# Altium schematic symbol library Regulator_Switching.SchLib: 1279 symbols (part 11 of 14)
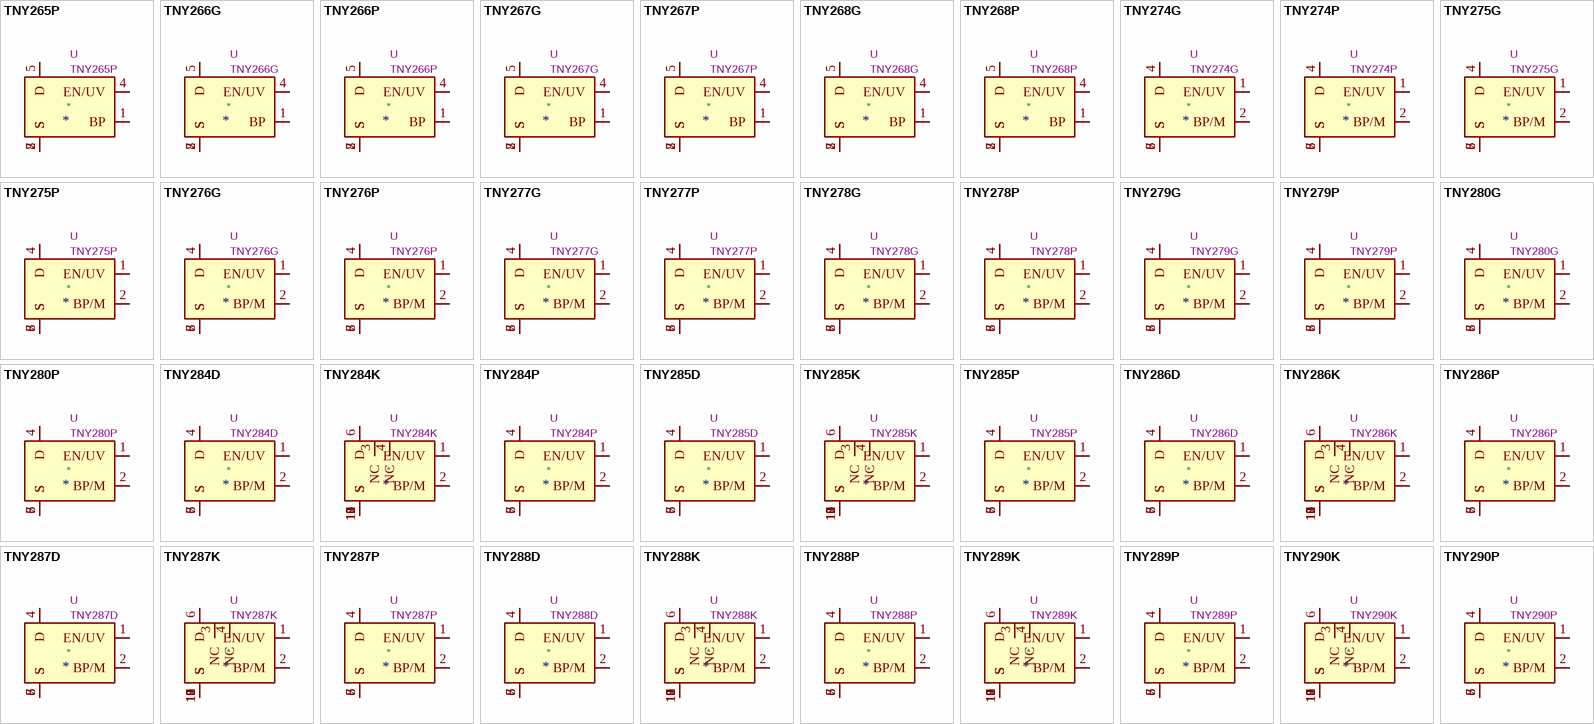
[diagram p42: symbols TNY265P to TNY290P]

## TNY287P
designator *  value TNY287P  Reference: U
TinySwitch-4 Family, 18W Output Power, PDIP-8C; ki_keywords: Energy-Efficient, Off-Line Switcher With Line Compensated Overload Power; ki_fp_filters: PowerIntegrations?PDIP?8C*; Footprint: Package_DIP:PowerIntegrations_PDIP-8C; Datasheet: https://ac-dc.power.com/sites/default/files/product-docs/tinyswitch-4_family_datasheet.pdf; Description_: TinySwitch-4 Family, 18W Output Power, PDIP-8C
pins: 1 EN/UV, 2 BP/M, 4 D, 5 S, 6 S, 7 S, 8 S

## TNY288D
designator *  value TNY288D  Reference: U
TinySwitch-4 Family, 19.5W Output Power, SO-8C; ki_keywords: Energy-Efficient, Off-Line Switcher With Line Compensated Overload Power; ki_fp_filters: PowerIntegrations?SO?8C*; Footprint: Package_SO:PowerIntegrations_SO-8C; Datasheet: https://ac-dc.power.com/sites/default/files/product-docs/tinyswitch-4_family_datasheet.pdf; Description_: TinySwitch-4 Family, 19.5W Output Power, SO-8C
pins: 1 EN/UV, 2 BP/M, 4 D, 5 S, 6 S, 7 S, 8 S

## TNY288K
designator *  value TNY288K  Reference: U
TinySwitch-4 Family, 21.5W Output Power, eSOP-12B; ki_keywords: Energy-Efficient, Off-Line Switcher With Line Compensated Overload Power; ki_fp_filters: PowerIntegrations?eSOP?12B*; Footprint: Package_SO:PowerIntegrations_eSOP-12B; Datasheet: https://ac-dc.power.com/sites/default/files/product-docs/tinyswitch-4_family_datasheet.pdf; Description_: TinySwitch-4 Family, 21.5W Output Power, eSOP-12B
pins: 1 EN/UV, 2 BP/M, 3 NC, 4 NC, 6 D, 7 S, 8 S, 9 S, 10 S, 11 S, 12 S, 13 S

## TNY288P
designator *  value TNY288P  Reference: U
TinySwitch-4 Family, 21.5W Output Power, PDIP-8C; ki_keywords: Energy-Efficient, Off-Line Switcher With Line Compensated Overload Power; ki_fp_filters: PowerIntegrations?PDIP?8C*; Footprint: Package_DIP:PowerIntegrations_PDIP-8C; Datasheet: https://ac-dc.power.com/sites/default/files/product-docs/tinyswitch-4_family_datasheet.pdf; Description_: TinySwitch-4 Family, 21.5W Output Power, PDIP-8C
pins: 1 EN/UV, 2 BP/M, 4 D, 5 S, 6 S, 7 S, 8 S

## TNY289K
designator *  value TNY289K  Reference: U
TinySwitch-4 Family, 25W Output Power, eSOP-12B; ki_keywords: Energy-Efficient, Off-Line Switcher With Line Compensated Overload Power; ki_fp_filters: PowerIntegrations?eSOP?12B*; Footprint: Package_SO:PowerIntegrations_eSOP-12B; Datasheet: https://ac-dc.power.com/sites/default/files/product-docs/tinyswitch-4_family_datasheet.pdf; Description_: TinySwitch-4 Family, 25W Output Power, eSOP-12B
pins: 1 EN/UV, 2 BP/M, 3 NC, 4 NC, 6 D, 7 S, 8 S, 9 S, 10 S, 11 S, 12 S, 13 S

## TNY289P
designator *  value TNY289P  Reference: U
TinySwitch-4 Family, 25W Output Power, PDIP-8C; ki_keywords: Energy-Efficient, Off-Line Switcher With Line Compensated Overload Power; ki_fp_filters: PowerIntegrations?PDIP?8C*; Footprint: Package_DIP:PowerIntegrations_PDIP-8C; Datasheet: https://ac-dc.power.com/sites/default/files/product-docs/tinyswitch-4_family_datasheet.pdf; Description_: TinySwitch-4 Family, 25W Output Power, PDIP-8C
pins: 1 EN/UV, 2 BP/M, 4 D, 5 S, 6 S, 7 S, 8 S

## TNY290K
designator *  value TNY290K  Reference: U
TinySwitch-4 Family, 28.5W Output Power, eSOP-12B; ki_keywords: Energy-Efficient, Off-Line Switcher With Line Compensated Overload Power; ki_fp_filters: PowerIntegrations?eSOP?12B*; Footprint: Package_SO:PowerIntegrations_eSOP-12B; Datasheet: https://ac-dc.power.com/sites/default/files/product-docs/tinyswitch-4_family_datasheet.pdf; Description_: TinySwitch-4 Family, 28.5W Output Power, eSOP-12B
pins: 1 EN/UV, 2 BP/M, 3 NC, 4 NC, 6 D, 7 S, 8 S, 9 S, 10 S, 11 S, 12 S, 13 S

## TNY290P
designator *  value TNY290P  Reference: U
TinySwitch-4 Family, 28.5W Output Power, PDIP-8C; ki_keywords: Energy-Efficient, Off-Line Switcher With Line Compensated Overload Power; ki_fp_filters: PowerIntegrations?PDIP?8C*; Footprint: Package_DIP:PowerIntegrations_PDIP-8C; Datasheet: https://ac-dc.power.com/sites/default/files/product-docs/tinyswitch-4_family_datasheet.pdf; Description_: TinySwitch-4 Family, 28.5W Output Power, PDIP-8C
pins: 1 EN/UV, 2 BP/M, 4 D, 5 S, 6 S, 7 S, 8 S

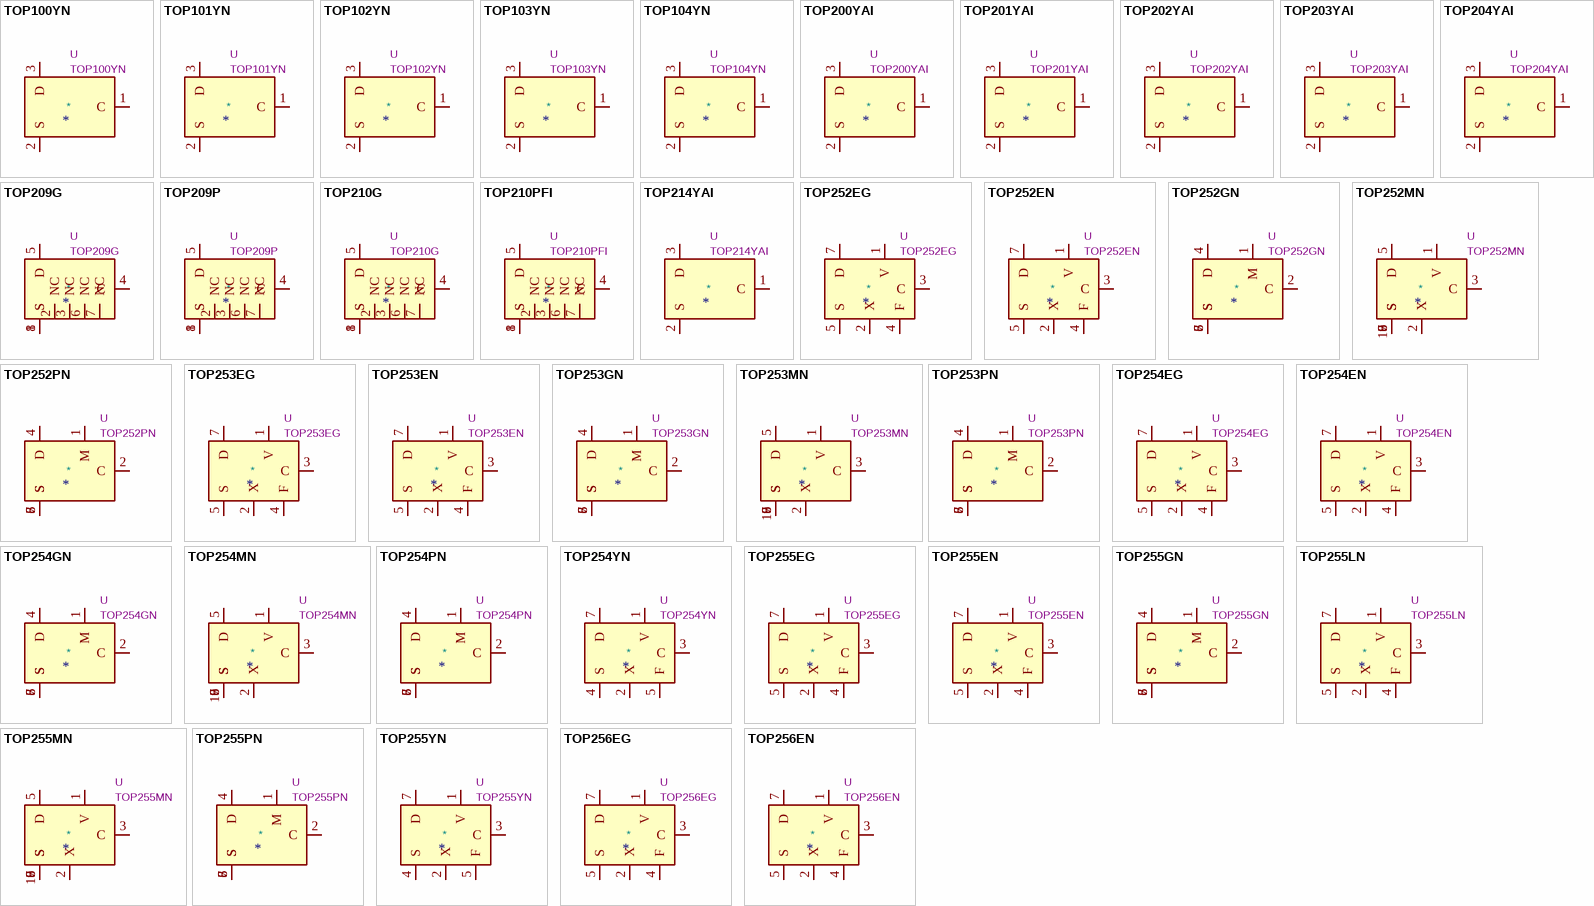
[diagram p24: symbols TOP100YN to TOP256EN]

## TOP100YN
designator *  value TOP100YN  Reference: U
TOPSwitch Family, 20W Max Output Power, TO-220; ki_keywords: Three-terminal Off-line PWM Switch; ki_fp_filters: TO?220*; Footprint: Package_TO_SOT_THT:TO-220-3_Vertical; Datasheet: http://www.powerint.com/sites/default/files/product-docs/top100.pdf; Description_: TOPSwitch Family, 20W Max Output Power, TO-220
pins: 1 C, 2 S, 3 D

## TOP101YN
designator *  value TOP101YN  Reference: U
TOPSwitch Family, 35W Max Output Power, TO-220; ki_keywords: Three-terminal Off-line PWM Switch; ki_fp_filters: TO?220*; Footprint: Package_TO_SOT_THT:TO-220-3_Vertical; Datasheet: http://www.powerint.com/sites/default/files/product-docs/top100.pdf; Description_: TOPSwitch Family, 35W Max Output Power, TO-220
pins: 1 C, 2 S, 3 D

## TOP102YN
designator *  value TOP102YN  Reference: U
TOPSwitch Family, 45W Max Output Power, TO-220; ki_keywords: Three-terminal Off-line PWM Switch; ki_fp_filters: TO?220*; Footprint: Package_TO_SOT_THT:TO-220-3_Vertical; Datasheet: http://www.powerint.com/sites/default/files/product-docs/top100.pdf; Description_: TOPSwitch Family, 45W Max Output Power, TO-220
pins: 1 C, 2 S, 3 D

## TOP103YN
designator *  value TOP103YN  Reference: U
TOPSwitch Family, 55W Max Output Power, TO-220; ki_keywords: Three-terminal Off-line PWM Switch; ki_fp_filters: TO?220*; Footprint: Package_TO_SOT_THT:TO-220-3_Vertical; Datasheet: http://www.powerint.com/sites/default/files/product-docs/top100.pdf; Description_: TOPSwitch Family, 55W Max Output Power, TO-220
pins: 1 C, 2 S, 3 D

## TOP104YN
designator *  value TOP104YN  Reference: U
TOPSwitch Family, 60W Max Output Power, TO-220; ki_keywords: Three-terminal Off-line PWM Switch; ki_fp_filters: TO?220*; Footprint: Package_TO_SOT_THT:TO-220-3_Vertical; Datasheet: http://www.powerint.com/sites/default/files/product-docs/top100.pdf; Description_: TOPSwitch Family, 60W Max Output Power, TO-220
pins: 1 C, 2 S, 3 D

## TOP200YAI
designator *  value TOP200YAI  Reference: U
TOPSwitch Family, 12W Max Output Power, TO-220; ki_keywords: Three-terminal Off-line PWM Switch; ki_fp_filters: TO?220*; Footprint: Package_TO_SOT_THT:TO-220-3_Vertical; Datasheet: http://www.powerint.com/sites/default/files/product-docs/top200-204214.pdf; Description_: TOPSwitch Family, 12W Max Output Power, TO-220
pins: 1 C, 2 S, 3 D

## TOP201YAI
designator *  value TOP201YAI  Reference: U
TOPSwitch Family, 22W Max Output Power, TO-220; ki_keywords: Three-terminal Off-line PWM Switch; ki_fp_filters: TO?220*; Footprint: Package_TO_SOT_THT:TO-220-3_Vertical; Datasheet: http://www.powerint.com/sites/default/files/product-docs/top200-204214.pdf; Description_: TOPSwitch Family, 22W Max Output Power, TO-220
pins: 1 C, 2 S, 3 D

## TOP202YAI
designator *  value TOP202YAI  Reference: U
TOPSwitch Family, 30W Max Output Power, TO-220; ki_keywords: Three-terminal Off-line PWM Switch; ki_fp_filters: TO?220*; Footprint: Package_TO_SOT_THT:TO-220-3_Vertical; Datasheet: http://www.powerint.com/sites/default/files/product-docs/top200-204214.pdf; Description_: TOPSwitch Family, 30W Max Output Power, TO-220
pins: 1 C, 2 S, 3 D

## TOP203YAI
designator *  value TOP203YAI  Reference: U
TOPSwitch Family, 35W Max Output Power, TO-220; ki_keywords: Three-terminal Off-line PWM Switch; ki_fp_filters: TO?220*; Footprint: Package_TO_SOT_THT:TO-220-3_Vertical; Datasheet: http://www.powerint.com/sites/default/files/product-docs/top200-204214.pdf; Description_: TOPSwitch Family, 35W Max Output Power, TO-220
pins: 1 C, 2 S, 3 D

## TOP204YAI
designator *  value TOP204YAI  Reference: U
TOPSwitch Family, 50W Max Output Power, TO-220; ki_keywords: Three-terminal Off-line PWM Switch; ki_fp_filters: TO?220*; Footprint: Package_TO_SOT_THT:TO-220-3_Vertical; Datasheet: http://www.powerint.com/sites/default/files/product-docs/top200-204214.pdf; Description_: TOPSwitch Family, 50W Max Output Power, TO-220
pins: 1 C, 2 S, 3 D

## TOP209G
designator *  value TOP209G  Reference: U
TOPSwitch Family, 2W Max Output Power, SMD-8; ki_keywords: Three-terminal Off-line PWM Switch; ki_fp_filters: PowerIntegrations?SMD?8*; Footprint: Package_DIP:PowerIntegrations_SMD-8; Datasheet: http://www.powerint.com/sites/default/files/product-docs/top209210.pdf; Description_: TOPSwitch Family, 2W Max Output Power, SMD-8
pins: 1 S, 2 NC, 3 NC, 4 C, 5 D, 6 NC, 7 NC, 8 S

## TOP209P
designator *  value TOP209P  Reference: U
TOPSwitch Family, 2W Max Output Power, DIP-8; ki_keywords: Three-terminal Off-line PWM Switch; ki_fp_filters: DIP*W7.62mm*; Footprint: Package_DIP:DIP-8_W7.62mm; Datasheet: http://www.powerint.com/sites/default/files/product-docs/top209210.pdf; Description_: TOPSwitch Family, 2W Max Output Power, DIP-8
pins: 1 S, 2 NC, 3 NC, 4 C, 5 D, 6 NC, 7 NC, 8 S

## TOP210G
designator *  value TOP210G  Reference: U
TOPSwitch Family, 5W Max Output Power, SMD-8; ki_keywords: Three-terminal Off-line PWM Switch; ki_fp_filters: PowerIntegrations?SMD?8*; Footprint: Package_DIP:PowerIntegrations_SMD-8; Datasheet: http://www.powerint.com/sites/default/files/product-docs/top209210.pdf; Description_: TOPSwitch Family, 5W Max Output Power, SMD-8
pins: 1 S, 2 NC, 3 NC, 4 C, 5 D, 6 NC, 7 NC, 8 S

## TOP210PFI
designator *  value TOP210PFI  Reference: U
TOPSwitch Family, 5W Max Output Power, DIP-8; ki_keywords: Three-terminal Off-line PWM Switch; ki_fp_filters: DIP*W7.62mm*; Footprint: Package_DIP:DIP-8_W7.62mm; Datasheet: http://www.powerint.com/sites/default/files/product-docs/top209210.pdf; Description_: TOPSwitch Family, 5W Max Output Power, DIP-8
pins: 1 S, 2 NC, 3 NC, 4 C, 5 D, 6 NC, 7 NC, 8 S

## TOP214YAI
designator *  value TOP214YAI  Reference: U
TOPSwitch Family, 42W Max Output Power, TO-220; ki_keywords: Three-terminal Off-line PWM Switch; ki_fp_filters: TO?220*; Footprint: Package_TO_SOT_THT:TO-220-3_Vertical; Datasheet: http://www.powerint.com/sites/default/files/product-docs/top200-204214.pdf; Description_: TOPSwitch Family, 42W Max Output Power, TO-220
pins: 1 C, 2 S, 3 D

## TOP252EG
designator *  value TOP252EG  Reference: U
TOPSwitch-HX Family, 13W Output Power; ki_keywords: Eco Smart Off-Line Switcher Extendend Power Range; ki_fp_filters: PowerIntegrations?eSIP?7C*; Footprint: Package_SIP:PowerIntegrations_eSIP-7C; Datasheet: https://ac-dc.power.com/sites/default/files/product-docs/topswitch-hx_family_datasheet.pdf; Description_: TOPSwitch-HX Family, 13W Output Power
pins: 1 V, 2 X, 3 C, 4 F, 5 S, 7 D

## TOP252EN
designator *  value TOP252EN  Reference: U
TOPSwitch-HX Family, 13W Output Power; ki_keywords: Eco Smart Off-Line Switcher Extendend Power Range; ki_fp_filters: PowerIntegrations?eSIP?7C*; Footprint: Package_SIP:PowerIntegrations_eSIP-7C; Datasheet: https://ac-dc.power.com/sites/default/files/product-docs/topswitch-hx_family_datasheet.pdf; Description_: TOPSwitch-HX Family, 13W Output Power
pins: 1 V, 2 X, 3 C, 4 F, 5 S, 7 D

## TOP252GN
designator *  value TOP252GN  Reference: U
TOPSwitch-HX Family, 10W Output Power; ki_keywords: Eco Smart Off-Line Switcher Extendend Power Range; ki_fp_filters: PowerIntegrations?SMD?8C*; Footprint: Package_DIP:PowerIntegrations_SMD-8C; Datasheet: https://ac-dc.power.com/sites/default/files/product-docs/topswitch-hx_family_datasheet.pdf; Description_: TOPSwitch-HX Family, 10W Output Power
pins: 1 M, 2 C, 4 D, 5 S, 6 S, 7 S, 8 S

## TOP252MN
designator *  value TOP252MN  Reference: U
TOPSwitch-HX Family, 10W Output Power; ki_keywords: Eco Smart Off-Line Switcher Extendend Power Range; ki_fp_filters: PowerIntegrations?SDIP?10C*; Footprint: Package_DIP:PowerIntegrations_SDIP-10C; Datasheet: https://ac-dc.power.com/sites/default/files/product-docs/topswitch-hx_family_datasheet.pdf; Description_: TOPSwitch-HX Family, 10W Output Power
pins: 1 V, 2 X, 3 C, 5 D, 6 S, 7 S, 8 S, 9 S, 10 S

## TOP252PN
designator *  value TOP252PN  Reference: U
TOPSwitch-HX Family, 10W Output Power; ki_keywords: Eco Smart Off-Line Switcher Extendend Power Range; ki_fp_filters: PowerIntegrations?PDIP?8C*; Footprint: Package_DIP:PowerIntegrations_PDIP-8C; Datasheet: https://ac-dc.power.com/sites/default/files/product-docs/topswitch-hx_family_datasheet.pdf; Description_: TOPSwitch-HX Family, 10W Output Power
pins: 1 M, 2 C, 4 D, 5 S, 6 S, 7 S, 8 S

## TOP253EG
designator *  value TOP253EG  Reference: U
TOPSwitch-HX Family, 29W Output Power; ki_keywords: Eco Smart Off-Line Switcher Extendend Power Range; ki_fp_filters: PowerIntegrations?eSIP?7C*; Footprint: Package_SIP:PowerIntegrations_eSIP-7C; Datasheet: https://ac-dc.power.com/sites/default/files/product-docs/topswitch-hx_family_datasheet.pdf; Description_: TOPSwitch-HX Family, 29W Output Power
pins: 1 V, 2 X, 3 C, 4 F, 5 S, 7 D

## TOP253EN
designator *  value TOP253EN  Reference: U
TOPSwitch-HX Family, 29W Output Power; ki_keywords: Eco Smart Off-Line Switcher Extendend Power Range; ki_fp_filters: PowerIntegrations?eSIP?7C*; Footprint: Package_SIP:PowerIntegrations_eSIP-7C; Datasheet: https://ac-dc.power.com/sites/default/files/product-docs/topswitch-hx_family_datasheet.pdf; Description_: TOPSwitch-HX Family, 29W Output Power
pins: 1 V, 2 X, 3 C, 4 F, 5 S, 7 D

## TOP253GN
designator *  value TOP253GN  Reference: U
TOPSwitch-HX Family, 15W Output Power; ki_keywords: Eco Smart Off-Line Switcher Extendend Power Range; ki_fp_filters: PowerIntegrations?SMD?8C*; Footprint: Package_DIP:PowerIntegrations_SMD-8C; Datasheet: https://ac-dc.power.com/sites/default/files/product-docs/topswitch-hx_family_datasheet.pdf; Description_: TOPSwitch-HX Family, 15W Output Power
pins: 1 M, 2 C, 4 D, 5 S, 6 S, 7 S, 8 S

## TOP253MN
designator *  value TOP253MN  Reference: U
TOPSwitch-HX Family, 15W Output Power; ki_keywords: Eco Smart Off-Line Switcher Extendend Power Range; ki_fp_filters: PowerIntegrations?SDIP?10C*; Footprint: Package_DIP:PowerIntegrations_SDIP-10C; Datasheet: https://ac-dc.power.com/sites/default/files/product-docs/topswitch-hx_family_datasheet.pdf; Description_: TOPSwitch-HX Family, 15W Output Power
pins: 1 V, 2 X, 3 C, 5 D, 6 S, 7 S, 8 S, 9 S, 10 S

## TOP253PN
designator *  value TOP253PN  Reference: U
TOPSwitch-HX Family, 15W Output Power; ki_keywords: Eco Smart Off-Line Switcher Extendend Power Range; ki_fp_filters: PowerIntegrations?PDIP?8C*; Footprint: Package_DIP:PowerIntegrations_PDIP-8C; Datasheet: https://ac-dc.power.com/sites/default/files/product-docs/topswitch-hx_family_datasheet.pdf; Description_: TOPSwitch-HX Family, 15W Output Power
pins: 1 M, 2 C, 4 D, 5 S, 6 S, 7 S, 8 S

## TOP254EG
designator *  value TOP254EG  Reference: U
TOPSwitch-HX Family, 43W Output Power; ki_keywords: Eco Smart Off-Line Switcher Extendend Power Range; ki_fp_filters: PowerIntegrations?eSIP?7C*; Footprint: Package_SIP:PowerIntegrations_eSIP-7C; Datasheet: https://ac-dc.power.com/sites/default/files/product-docs/topswitch-hx_family_datasheet.pdf; Description_: TOPSwitch-HX Family, 43W Output Power
pins: 1 V, 2 X, 3 C, 4 F, 5 S, 7 D

## TOP254EN
designator *  value TOP254EN  Reference: U
TOPSwitch-HX Family, 43W Output Power; ki_keywords: Eco Smart Off-Line Switcher Extendend Power Range; ki_fp_filters: PowerIntegrations?eSIP?7C*; Footprint: Package_SIP:PowerIntegrations_eSIP-7C; Datasheet: https://ac-dc.power.com/sites/default/files/product-docs/topswitch-hx_family_datasheet.pdf; Description_: TOPSwitch-HX Family, 43W Output Power
pins: 1 V, 2 X, 3 C, 4 F, 5 S, 7 D

## TOP254GN
designator *  value TOP254GN  Reference: U
TOPSwitch-HX Family, 20W Output Power; ki_keywords: Eco Smart Off-Line Switcher Extendend Power Range; ki_fp_filters: PowerIntegrations?SMD?8C*; Footprint: Package_DIP:PowerIntegrations_SMD-8C; Datasheet: https://ac-dc.power.com/sites/default/files/product-docs/topswitch-hx_family_datasheet.pdf; Description_: TOPSwitch-HX Family, 20W Output Power
pins: 1 M, 2 C, 4 D, 5 S, 6 S, 7 S, 8 S

## TOP254MN
designator *  value TOP254MN  Reference: U
TOPSwitch-HX Family, 20W Output Power; ki_keywords: Eco Smart Off-Line Switcher Extendend Power Range; ki_fp_filters: PowerIntegrations?SDIP?10C*; Footprint: Package_DIP:PowerIntegrations_SDIP-10C; Datasheet: https://ac-dc.power.com/sites/default/files/product-docs/topswitch-hx_family_datasheet.pdf; Description_: TOPSwitch-HX Family, 20W Output Power
pins: 1 V, 2 X, 3 C, 5 D, 6 S, 7 S, 8 S, 9 S, 10 S

## TOP254PN
designator *  value TOP254PN  Reference: U
TOPSwitch-HX Family, 20W Output Power; ki_keywords: Eco Smart Off-Line Switcher Extendend Power Range; ki_fp_filters: PowerIntegrations?PDIP?8C*; Footprint: Package_DIP:PowerIntegrations_PDIP-8C; Datasheet: https://ac-dc.power.com/sites/default/files/product-docs/topswitch-hx_family_datasheet.pdf; Description_: TOPSwitch-HX Family, 20W Output Power
pins: 1 M, 2 C, 4 D, 5 S, 6 S, 7 S, 8 S

## TOP254YN
designator *  value TOP254YN  Reference: U
TOPSwitch-HX Family, 43W Output Power; ki_keywords: Eco Smart Off-Line Switcher Extendend Power Range; ki_fp_filters: PowerIntegrations*TO?220?7C*; Footprint: Package_TO_SOT_THT:PowerIntegrations_TO-220-7C; Datasheet: https://ac-dc.power.com/sites/default/files/product-docs/topswitch-hx_family_datasheet.pdf; Description_: TOPSwitch-HX Family, 43W Output Power
pins: 1 V, 2 X, 3 C, 4 S, 5 F, 7 D

## TOP255EG
designator *  value TOP255EG  Reference: U
TOPSwitch-HX Family, 57W Output Power; ki_keywords: Eco Smart Off-Line Switcher Extendend Power Range; ki_fp_filters: PowerIntegrations?eSIP?7C*; Footprint: Package_SIP:PowerIntegrations_eSIP-7C; Datasheet: https://ac-dc.power.com/sites/default/files/product-docs/topswitch-hx_family_datasheet.pdf; Description_: TOPSwitch-HX Family, 57W Output Power
pins: 1 V, 2 X, 3 C, 4 F, 5 S, 7 D

## TOP255EN
designator *  value TOP255EN  Reference: U
TOPSwitch-HX Family, 57W Output Power; ki_keywords: Eco Smart Off-Line Switcher Extendend Power Range; ki_fp_filters: PowerIntegrations?eSIP?7C*; Footprint: Package_SIP:PowerIntegrations_eSIP-7C; Datasheet: https://ac-dc.power.com/sites/default/files/product-docs/topswitch-hx_family_datasheet.pdf; Description_: TOPSwitch-HX Family, 57W Output Power
pins: 1 V, 2 X, 3 C, 4 F, 5 S, 7 D

## TOP255GN
designator *  value TOP255GN  Reference: U
TOPSwitch-HX Family, 22W Output Power; ki_keywords: Eco Smart Off-Line Switcher Extendend Power Range; ki_fp_filters: PowerIntegrations?SMD?8C*; Footprint: Package_DIP:PowerIntegrations_SMD-8C; Datasheet: https://ac-dc.power.com/sites/default/files/product-docs/topswitch-hx_family_datasheet.pdf; Description_: TOPSwitch-HX Family, 22W Output Power
pins: 1 M, 2 C, 4 D, 5 S, 6 S, 7 S, 8 S

## TOP255LN
designator *  value TOP255LN  Reference: U
TOPSwitch-HX Family, 57W Output Power; ki_keywords: Eco Smart Off-Line Switcher Extendend Power Range; ki_fp_filters: PowerIntegrations?eSIP?7F*; Footprint: Package_SIP:PowerIntegrations_eSIP-7F; Datasheet: https://ac-dc.power.com/sites/default/files/product-docs/topswitch-hx_family_datasheet.pdf; Description_: TOPSwitch-HX Family, 57W Output Power
pins: 1 V, 2 X, 3 C, 4 F, 5 S, 7 D

## TOP255MN
designator *  value TOP255MN  Reference: U
TOPSwitch-HX Family, 22W Output Power; ki_keywords: Eco Smart Off-Line Switcher Extendend Power Range; ki_fp_filters: PowerIntegrations?SDIP?10C*; Footprint: Package_DIP:PowerIntegrations_SDIP-10C; Datasheet: https://ac-dc.power.com/sites/default/files/product-docs/topswitch-hx_family_datasheet.pdf; Description_: TOPSwitch-HX Family, 22W Output Power
pins: 1 V, 2 X, 3 C, 5 D, 6 S, 7 S, 8 S, 9 S, 10 S

## TOP255PN
designator *  value TOP255PN  Reference: U
TOPSwitch-HX Family, 22W Output Power; ki_keywords: Eco Smart Off-Line Switcher Extendend Power Range; ki_fp_filters: PowerIntegrations?PDIP?8C*; Footprint: Package_DIP:PowerIntegrations_PDIP-8C; Datasheet: https://ac-dc.power.com/sites/default/files/product-docs/topswitch-hx_family_datasheet.pdf; Description_: TOPSwitch-HX Family, 22W Output Power
pins: 1 M, 2 C, 4 D, 5 S, 6 S, 7 S, 8 S

## TOP255YN
designator *  value TOP255YN  Reference: U
TOPSwitch-HX Family, 57W Output Power; ki_keywords: Eco Smart Off-Line Switcher Extendend Power Range; ki_fp_filters: PowerIntegrations*TO?220?7C*; Footprint: Package_TO_SOT_THT:PowerIntegrations_TO-220-7C; Datasheet: https://ac-dc.power.com/sites/default/files/product-docs/topswitch-hx_family_datasheet.pdf; Description_: TOPSwitch-HX Family, 57W Output Power
pins: 1 V, 2 X, 3 C, 4 S, 5 F, 7 D

## TOP256EG
designator *  value TOP256EG  Reference: U
TOPSwitch-HX Family, 86W Output Power; ki_keywords: Eco Smart Off-Line Switcher Extendend Power Range; ki_fp_filters: PowerIntegrations?eSIP?7C*; Footprint: Package_SIP:PowerIntegrations_eSIP-7C; Datasheet: https://ac-dc.power.com/sites/default/files/product-docs/topswitch-hx_family_datasheet.pdf; Description_: TOPSwitch-HX Family, 86W Output Power
pins: 1 V, 2 X, 3 C, 4 F, 5 S, 7 D

## TOP256EN
designator *  value TOP256EN  Reference: U
TOPSwitch-HX Family, 86W Output Power; ki_keywords: Eco Smart Off-Line Switcher Extendend Power Range; ki_fp_filters: PowerIntegrations?eSIP?7C*; Footprint: Package_SIP:PowerIntegrations_eSIP-7C; Datasheet: https://ac-dc.power.com/sites/default/files/product-docs/topswitch-hx_family_datasheet.pdf; Description_: TOPSwitch-HX Family, 86W Output Power
pins: 1 V, 2 X, 3 C, 4 F, 5 S, 7 D

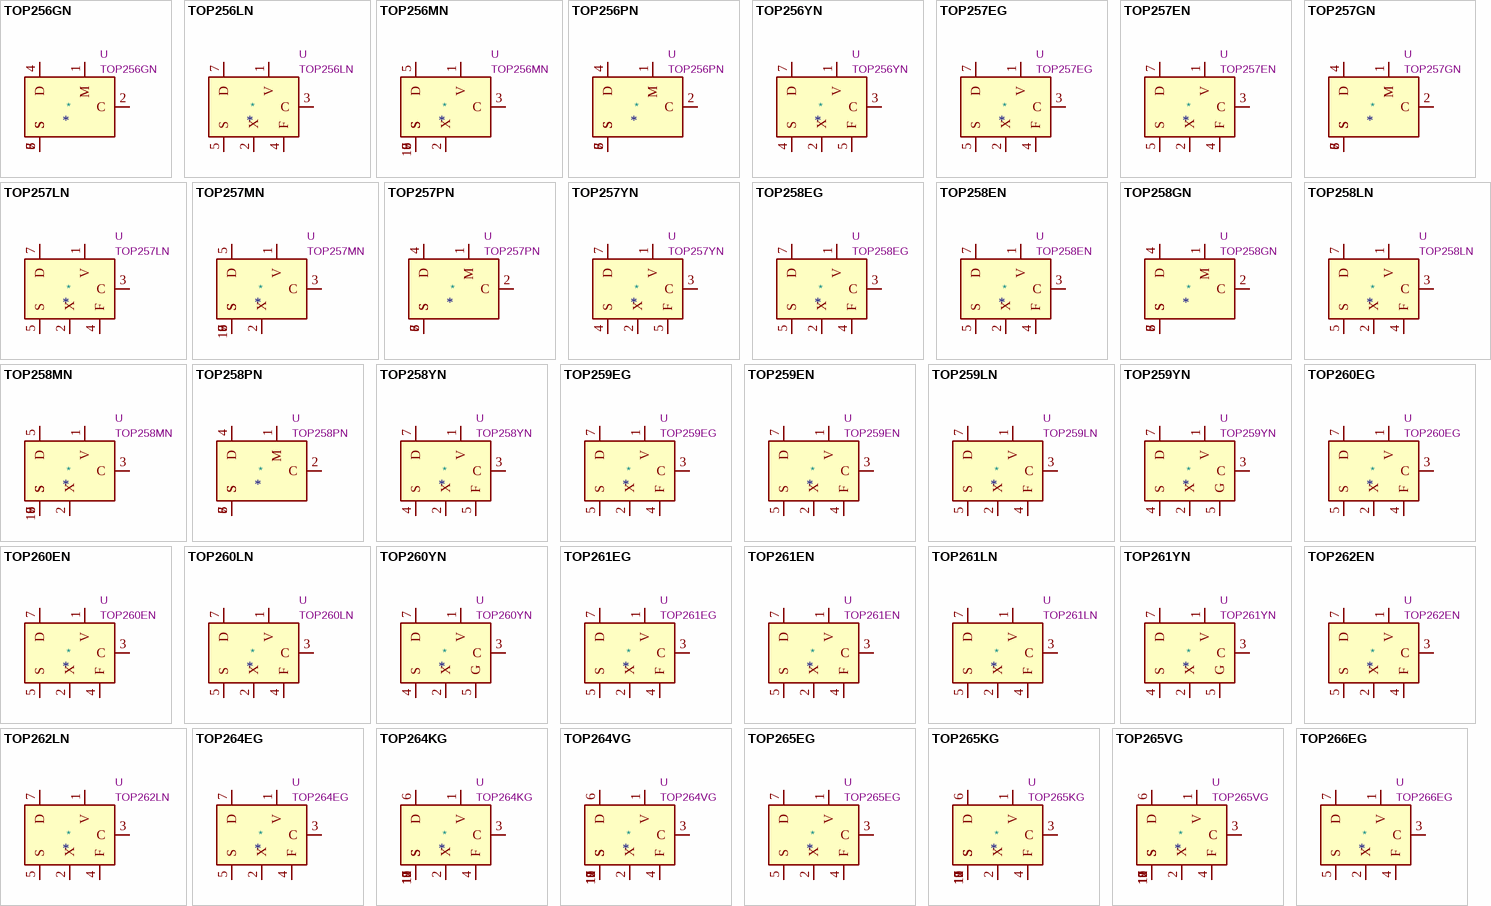
[diagram p25: symbols TOP256GN to TOP266EG]

## TOP256GN
designator *  value TOP256GN  Reference: U
TOPSwitch-HX Family, 26W Output Power; ki_keywords: Eco Smart Off-Line Switcher Extendend Power Range; ki_fp_filters: PowerIntegrations?SMD?8C*; Footprint: Package_DIP:PowerIntegrations_SMD-8C; Datasheet: https://ac-dc.power.com/sites/default/files/product-docs/topswitch-hx_family_datasheet.pdf; Description_: TOPSwitch-HX Family, 26W Output Power
pins: 1 M, 2 C, 4 D, 5 S, 6 S, 7 S, 8 S

## TOP256LN
designator *  value TOP256LN  Reference: U
TOPSwitch-HX Family, 64W Output Power; ki_keywords: Eco Smart Off-Line Switcher Extendend Power Range; ki_fp_filters: PowerIntegrations?eSIP?7F*; Footprint: Package_SIP:PowerIntegrations_eSIP-7F; Datasheet: https://ac-dc.power.com/sites/default/files/product-docs/topswitch-hx_family_datasheet.pdf; Description_: TOPSwitch-HX Family, 64W Output Power
pins: 1 V, 2 X, 3 C, 4 F, 5 S, 7 D

## TOP256MN
designator *  value TOP256MN  Reference: U
TOPSwitch-HX Family, 26W Output Power; ki_keywords: Eco Smart Off-Line Switcher Extendend Power Range; ki_fp_filters: PowerIntegrations?SDIP?10C*; Footprint: Package_DIP:PowerIntegrations_SDIP-10C; Datasheet: https://ac-dc.power.com/sites/default/files/product-docs/topswitch-hx_family_datasheet.pdf; Description_: TOPSwitch-HX Family, 26W Output Power
pins: 1 V, 2 X, 3 C, 5 D, 6 S, 7 S, 8 S, 9 S, 10 S

## TOP256PN
designator *  value TOP256PN  Reference: U
TOPSwitch-HX Family, 26W Output Power; ki_keywords: Eco Smart Off-Line Switcher Extendend Power Range; ki_fp_filters: PowerIntegrations?PDIP?8C*; Footprint: Package_DIP:PowerIntegrations_PDIP-8C; Datasheet: https://ac-dc.power.com/sites/default/files/product-docs/topswitch-hx_family_datasheet.pdf; Description_: TOPSwitch-HX Family, 26W Output Power
pins: 1 M, 2 C, 4 D, 5 S, 6 S, 7 S, 8 S

## TOP256YN
designator *  value TOP256YN  Reference: U
TOPSwitch-HX Family, 86W Output Power; ki_keywords: Eco Smart Off-Line Switcher Extendend Power Range; ki_fp_filters: PowerIntegrations*TO?220?7C*; Footprint: Package_TO_SOT_THT:PowerIntegrations_TO-220-7C; Datasheet: https://ac-dc.power.com/sites/default/files/product-docs/topswitch-hx_family_datasheet.pdf; Description_: TOPSwitch-HX Family, 86W Output Power
pins: 1 V, 2 X, 3 C, 4 S, 5 F, 7 D

## TOP257EG
designator *  value TOP257EG  Reference: U
TOPSwitch-HX Family, 119W Output Power; ki_keywords: Eco Smart Off-Line Switcher Extendend Power Range; ki_fp_filters: PowerIntegrations?eSIP?7C*; Footprint: Package_SIP:PowerIntegrations_eSIP-7C; Datasheet: https://ac-dc.power.com/sites/default/files/product-docs/topswitch-hx_family_datasheet.pdf; Description_: TOPSwitch-HX Family, 119W Output Power
pins: 1 V, 2 X, 3 C, 4 F, 5 S, 7 D

## TOP257EN
designator *  value TOP257EN  Reference: U
TOPSwitch-HX Family, 119W Output Power; ki_keywords: Eco Smart Off-Line Switcher Extendend Power Range; ki_fp_filters: PowerIntegrations?eSIP?7C*; Footprint: Package_SIP:PowerIntegrations_eSIP-7C; Datasheet: https://ac-dc.power.com/sites/default/files/product-docs/topswitch-hx_family_datasheet.pdf; Description_: TOPSwitch-HX Family, 119W Output Power
pins: 1 V, 2 X, 3 C, 4 F, 5 S, 7 D

## TOP257GN
designator *  value TOP257GN  Reference: U
TOPSwitch-HX Family, 30W Output Power; ki_keywords: Eco Smart Off-Line Switcher Extendend Power Range; ki_fp_filters: PowerIntegrations?SMD?8C*; Footprint: Package_DIP:PowerIntegrations_SMD-8C; Datasheet: https://ac-dc.power.com/sites/default/files/product-docs/topswitch-hx_family_datasheet.pdf; Description_: TOPSwitch-HX Family, 30W Output Power
pins: 1 M, 2 C, 4 D, 5 S, 6 S, 7 S, 8 S

## TOP257LN
designator *  value TOP257LN  Reference: U
TOPSwitch-HX Family, 78W Output Power; ki_keywords: Eco Smart Off-Line Switcher Extendend Power Range; ki_fp_filters: PowerIntegrations?eSIP?7F*; Footprint: Package_SIP:PowerIntegrations_eSIP-7F; Datasheet: https://ac-dc.power.com/sites/default/files/product-docs/topswitch-hx_family_datasheet.pdf; Description_: TOPSwitch-HX Family, 78W Output Power
pins: 1 V, 2 X, 3 C, 4 F, 5 S, 7 D

## TOP257MN
designator *  value TOP257MN  Reference: U
TOPSwitch-HX Family, 30W Output Power; ki_keywords: Eco Smart Off-Line Switcher Extendend Power Range; ki_fp_filters: PowerIntegrations?SDIP?10C*; Footprint: Package_DIP:PowerIntegrations_SDIP-10C; Datasheet: https://ac-dc.power.com/sites/default/files/product-docs/topswitch-hx_family_datasheet.pdf; Description_: TOPSwitch-HX Family, 30W Output Power
pins: 1 V, 2 X, 3 C, 5 D, 6 S, 7 S, 8 S, 9 S, 10 S

## TOP257PN
designator *  value TOP257PN  Reference: U
TOPSwitch-HX Family, 30W Output Power; ki_keywords: Eco Smart Off-Line Switcher Extendend Power Range; ki_fp_filters: PowerIntegrations?PDIP?8C*; Footprint: Package_DIP:PowerIntegrations_PDIP-8C; Datasheet: https://ac-dc.power.com/sites/default/files/product-docs/topswitch-hx_family_datasheet.pdf; Description_: TOPSwitch-HX Family, 30W Output Power
pins: 1 M, 2 C, 4 D, 5 S, 6 S, 7 S, 8 S

## TOP257YN
designator *  value TOP257YN  Reference: U
TOPSwitch-HX Family, 119W Output Power; ki_keywords: Eco Smart Off-Line Switcher Extendend Power Range; ki_fp_filters: PowerIntegrations*TO?220?7C*; Footprint: Package_TO_SOT_THT:PowerIntegrations_TO-220-7C; Datasheet: https://ac-dc.power.com/sites/default/files/product-docs/topswitch-hx_family_datasheet.pdf; Description_: TOPSwitch-HX Family, 119W Output Power
pins: 1 V, 2 X, 3 C, 4 S, 5 F, 7 D

## TOP258EG
designator *  value TOP258EG  Reference: U
TOPSwitch-HX Family, 148W Output Power; ki_keywords: Eco Smart Off-Line Switcher Extendend Power Range; ki_fp_filters: PowerIntegrations?eSIP?7C*; Footprint: Package_SIP:PowerIntegrations_eSIP-7C; Datasheet: https://ac-dc.power.com/sites/default/files/product-docs/topswitch-hx_family_datasheet.pdf; Description_: TOPSwitch-HX Family, 148W Output Power
pins: 1 V, 2 X, 3 C, 4 F, 5 S, 7 D

## TOP258EN
designator *  value TOP258EN  Reference: U
TOPSwitch-HX Family, 148W Output Power; ki_keywords: Eco Smart Off-Line Switcher Extendend Power Range; ki_fp_filters: PowerIntegrations?eSIP?7C*; Footprint: Package_SIP:PowerIntegrations_eSIP-7C; Datasheet: https://ac-dc.power.com/sites/default/files/product-docs/topswitch-hx_family_datasheet.pdf; Description_: TOPSwitch-HX Family, 148W Output Power
pins: 1 V, 2 X, 3 C, 4 F, 5 S, 7 D

## TOP258GN
designator *  value TOP258GN  Reference: U
TOPSwitch-HX Family, 35W Output Power; ki_keywords: Eco Smart Off-Line Switcher Extendend Power Range; ki_fp_filters: PowerIntegrations?SMD?8C*; Footprint: Package_DIP:PowerIntegrations_SMD-8C; Datasheet: https://ac-dc.power.com/sites/default/files/product-docs/topswitch-hx_family_datasheet.pdf; Description_: TOPSwitch-HX Family, 35W Output Power
pins: 1 M, 2 C, 4 D, 5 S, 6 S, 7 S, 8 S

## TOP258LN
designator *  value TOP258LN  Reference: U
TOPSwitch-HX Family, 92W Output Power; ki_keywords: Eco Smart Off-Line Switcher Extendend Power Range; ki_fp_filters: PowerIntegrations?eSIP?7F*; Footprint: Package_SIP:PowerIntegrations_eSIP-7F; Datasheet: https://ac-dc.power.com/sites/default/files/product-docs/topswitch-hx_family_datasheet.pdf; Description_: TOPSwitch-HX Family, 92W Output Power
pins: 1 V, 2 X, 3 C, 4 F, 5 S, 7 D

## TOP258MN
designator *  value TOP258MN  Reference: U
TOPSwitch-HX Family, 35W Output Power; ki_keywords: Eco Smart Off-Line Switcher Extendend Power Range; ki_fp_filters: PowerIntegrations?SDIP?10C*; Footprint: Package_DIP:PowerIntegrations_SDIP-10C; Datasheet: https://ac-dc.power.com/sites/default/files/product-docs/topswitch-hx_family_datasheet.pdf; Description_: TOPSwitch-HX Family, 35W Output Power
pins: 1 V, 2 X, 3 C, 5 D, 6 S, 7 S, 8 S, 9 S, 10 S

## TOP258PN
designator *  value TOP258PN  Reference: U
TOPSwitch-HX Family, 35W Output Power; ki_keywords: Eco Smart Off-Line Switcher Extendend Power Range; ki_fp_filters: PowerIntegrations?PDIP?8C*; Footprint: Package_DIP:PowerIntegrations_PDIP-8C; Datasheet: https://ac-dc.power.com/sites/default/files/product-docs/topswitch-hx_family_datasheet.pdf; Description_: TOPSwitch-HX Family, 35W Output Power
pins: 1 M, 2 C, 4 D, 5 S, 6 S, 7 S, 8 S

## TOP258YN
designator *  value TOP258YN  Reference: U
TOPSwitch-HX Family, 148W Output Power; ki_keywords: Eco Smart Off-Line Switcher Extendend Power Range; ki_fp_filters: PowerIntegrations*TO?220?7C*; Footprint: Package_TO_SOT_THT:PowerIntegrations_TO-220-7C; Datasheet: https://ac-dc.power.com/sites/default/files/product-docs/topswitch-hx_family_datasheet.pdf; Description_: TOPSwitch-HX Family, 148W Output Power
pins: 1 V, 2 X, 3 C, 4 S, 5 F, 7 D

## TOP259EG
designator *  value TOP259EG  Reference: U
TOPSwitch-HX Family, 171W Output Power; ki_keywords: Eco Smart Off-Line Switcher Extendend Power Range; ki_fp_filters: PowerIntegrations?eSIP?7C*; Footprint: Package_SIP:PowerIntegrations_eSIP-7C; Datasheet: https://ac-dc.power.com/sites/default/files/product-docs/topswitch-hx_family_datasheet.pdf; Description_: TOPSwitch-HX Family, 171W Output Power
pins: 1 V, 2 X, 3 C, 4 F, 5 S, 7 D

## TOP259EN
designator *  value TOP259EN  Reference: U
TOPSwitch-HX Family, 171W Output Power; ki_keywords: Eco Smart Off-Line Switcher Extendend Power Range; ki_fp_filters: PowerIntegrations?eSIP?7C*; Footprint: Package_SIP:PowerIntegrations_eSIP-7C; Datasheet: https://ac-dc.power.com/sites/default/files/product-docs/topswitch-hx_family_datasheet.pdf; Description_: TOPSwitch-HX Family, 171W Output Power
pins: 1 V, 2 X, 3 C, 4 F, 5 S, 7 D

## TOP259LN
designator *  value TOP259LN  Reference: U
TOPSwitch-HX Family, 120W Output Power; ki_keywords: Eco Smart Off-Line Switcher Extendend Power Range; ki_fp_filters: PowerIntegrations?eSIP?7F*; Footprint: Package_SIP:PowerIntegrations_eSIP-7F; Datasheet: https://ac-dc.power.com/sites/default/files/product-docs/topswitch-hx_family_datasheet.pdf; Description_: TOPSwitch-HX Family, 120W Output Power
pins: 1 V, 2 X, 3 C, 4 F, 5 S, 7 D

## TOP259YN
designator *  value TOP259YN  Reference: U
TOPSwitch-HX Family, 171W Output Power; ki_keywords: Eco Smart Off-Line Switcher Extendend Power Range; ki_fp_filters: PowerIntegrations*TO?220?7C*; Footprint: Package_TO_SOT_THT:PowerIntegrations_TO-220-7C; Datasheet: https://ac-dc.power.com/sites/default/files/product-docs/topswitch-hx_family_datasheet.pdf; Description_: TOPSwitch-HX Family, 171W Output Power
pins: 1 V, 2 X, 3 C, 4 S, 5 G, 7 D

## TOP260EG
designator *  value TOP260EG  Reference: U
TOPSwitch-HX Family, 200W Output Power; ki_keywords: Eco Smart Off-Line Switcher Extendend Power Range; ki_fp_filters: PowerIntegrations?eSIP?7C*; Footprint: Package_SIP:PowerIntegrations_eSIP-7C; Datasheet: https://ac-dc.power.com/sites/default/files/product-docs/topswitch-hx_family_datasheet.pdf; Description_: TOPSwitch-HX Family, 200W Output Power
pins: 1 V, 2 X, 3 C, 4 F, 5 S, 7 D

## TOP260EN
designator *  value TOP260EN  Reference: U
TOPSwitch-HX Family, 200W Output Power; ki_keywords: Eco Smart Off-Line Switcher Extendend Power Range; ki_fp_filters: PowerIntegrations?eSIP?7C*; Footprint: Package_SIP:PowerIntegrations_eSIP-7C; Datasheet: https://ac-dc.power.com/sites/default/files/product-docs/topswitch-hx_family_datasheet.pdf; Description_: TOPSwitch-HX Family, 200W Output Power
pins: 1 V, 2 X, 3 C, 4 F, 5 S, 7 D

## TOP260LN
designator *  value TOP260LN  Reference: U
TOPSwitch-HX Family, 140W Output Power; ki_keywords: Eco Smart Off-Line Switcher Extendend Power Range; ki_fp_filters: PowerIntegrations?eSIP?7F*; Footprint: Package_SIP:PowerIntegrations_eSIP-7F; Datasheet: https://ac-dc.power.com/sites/default/files/product-docs/topswitch-hx_family_datasheet.pdf; Description_: TOPSwitch-HX Family, 140W Output Power
pins: 1 V, 2 X, 3 C, 4 F, 5 S, 7 D

## TOP260YN
designator *  value TOP260YN  Reference: U
TOPSwitch-HX Family, 200W Output Power; ki_keywords: Eco Smart Off-Line Switcher Extendend Power Range; ki_fp_filters: PowerIntegrations*TO?220?7C*; Footprint: Package_TO_SOT_THT:PowerIntegrations_TO-220-7C; Datasheet: https://ac-dc.power.com/sites/default/files/product-docs/topswitch-hx_family_datasheet.pdf; Description_: TOPSwitch-HX Family, 200W Output Power
pins: 1 V, 2 X, 3 C, 4 S, 5 G, 7 D

## TOP261EG
designator *  value TOP261EG  Reference: U
TOPSwitch-HX Family, 254W Output Power; ki_keywords: Eco Smart Off-Line Switcher Extendend Power Range; ki_fp_filters: PowerIntegrations?eSIP?7C*; Footprint: Package_SIP:PowerIntegrations_eSIP-7C; Datasheet: https://ac-dc.power.com/sites/default/files/product-docs/topswitch-hx_family_datasheet.pdf; Description_: TOPSwitch-HX Family, 254W Output Power
pins: 1 V, 2 X, 3 C, 4 F, 5 S, 7 D

## TOP261EN
designator *  value TOP261EN  Reference: U
TOPSwitch-HX Family, 254W Output Power; ki_keywords: Eco Smart Off-Line Switcher Extendend Power Range; ki_fp_filters: PowerIntegrations?eSIP?7C*; Footprint: Package_SIP:PowerIntegrations_eSIP-7C; Datasheet: https://ac-dc.power.com/sites/default/files/product-docs/topswitch-hx_family_datasheet.pdf; Description_: TOPSwitch-HX Family, 254W Output Power
pins: 1 V, 2 X, 3 C, 4 F, 5 S, 7 D

## TOP261LN
designator *  value TOP261LN  Reference: U
TOPSwitch-HX Family, 177W Output Power; ki_keywords: Eco Smart Off-Line Switcher Extendend Power Range; ki_fp_filters: PowerIntegrations?eSIP?7F*; Footprint: Package_SIP:PowerIntegrations_eSIP-7F; Datasheet: https://ac-dc.power.com/sites/default/files/product-docs/topswitch-hx_family_datasheet.pdf; Description_: TOPSwitch-HX Family, 177W Output Power
pins: 1 V, 2 X, 3 C, 4 F, 5 S, 7 D

## TOP261YN
designator *  value TOP261YN  Reference: U
TOPSwitch-HX Family, 254W Output Power; ki_keywords: Eco Smart Off-Line Switcher Extendend Power Range; ki_fp_filters: PowerIntegrations*TO?220?7C*; Footprint: Package_TO_SOT_THT:PowerIntegrations_TO-220-7C; Datasheet: https://ac-dc.power.com/sites/default/files/product-docs/topswitch-hx_family_datasheet.pdf; Description_: TOPSwitch-HX Family, 254W Output Power
pins: 1 V, 2 X, 3 C, 4 S, 5 G, 7 D

## TOP262EN
designator *  value TOP262EN  Reference: U
TOPSwitch-HX Family, 254W Output Power; ki_keywords: Eco Smart Off-Line Switcher Extendend Power Range; ki_fp_filters: PowerIntegrations?eSIP?7C*; Footprint: Package_SIP:PowerIntegrations_eSIP-7C; Datasheet: https://ac-dc.power.com/sites/default/files/product-docs/topswitch-hx_family_datasheet.pdf; Description_: TOPSwitch-HX Family, 254W Output Power
pins: 1 V, 2 X, 3 C, 4 F, 5 S, 7 D

## TOP262LN
designator *  value TOP262LN  Reference: U
TOPSwitch-HX Family, 177W Output Power; ki_keywords: Eco Smart Off-Line Switcher Extendend Power Range; ki_fp_filters: PowerIntegrations?eSIP?7F*; Footprint: Package_SIP:PowerIntegrations_eSIP-7F; Datasheet: https://ac-dc.power.com/sites/default/files/product-docs/topswitch-hx_family_datasheet.pdf; Description_: TOPSwitch-HX Family, 177W Output Power
pins: 1 V, 2 X, 3 C, 4 F, 5 S, 7 D

## TOP264EG
designator *  value TOP264EG  Reference: U
TOPSwitch-JX Family, 43W Output Power, eSIP-7C; ki_keywords: Integrated Off-Line Switcher with EcoSmart™ Technology; ki_fp_filters: PowerIntegrations?eSIP?7C*; Footprint: Package_SIP:PowerIntegrations_eSIP-7C; Datasheet: https://ac-dc.power.com/sites/default/files/product-docs/topswitch-jx_family_datasheet.pdf; Description_: TOPSwitch-JX Family, 43W Output Power, eSIP-7C
pins: 1 V, 2 X, 3 C, 4 F, 5 S, 7 D

## TOP264KG
designator *  value TOP264KG  Reference: U
TOPSwitch-JX Family, 30W Output Power, eSOP-12B; ki_keywords: Integrated Off-Line Switcher with EcoSmart™ Technology; ki_fp_filters: PowerIntegrations?eSOP?12B*; Footprint: Package_SO:PowerIntegrations_eSOP-12B; Datasheet: https://ac-dc.power.com/sites/default/files/product-docs/topswitch-jx_family_datasheet.pdf; Description_: TOPSwitch-JX Family, 30W Output Power, eSOP-12B
pins: 1 V, 2 X, 3 C, 4 F, 6 D, 7 S, 8 S, 9 S, 10 S, 11 S, 12 S

## TOP264VG
designator *  value TOP264VG  Reference: U
TOPSwitch-JX Family, 43W Output Power, eDIP-12B; ki_keywords: Integrated Off-Line Switcher with EcoSmart™ Technology; ki_fp_filters: PowerIntegrations?eDIP?12*; Footprint: Package_DIP:PowerIntegrations_eDIP-12B; Datasheet: https://ac-dc.power.com/sites/default/files/product-docs/topswitch-jx_family_datasheet.pdf; Description_: TOPSwitch-JX Family, 43W Output Power, eDIP-12B
pins: 1 V, 2 X, 3 C, 4 F, 6 D, 7 S, 8 S, 9 S, 10 S, 11 S, 12 S

## TOP265EG
designator *  value TOP265EG  Reference: U
TOPSwitch-JX Family, 57W Output Power, eSIP-7C; ki_keywords: Integrated Off-Line Switcher with EcoSmart™ Technology; ki_fp_filters: PowerIntegrations?eSIP?7C*; Footprint: Package_SIP:PowerIntegrations_eSIP-7C; Datasheet: https://ac-dc.power.com/sites/default/files/product-docs/topswitch-jx_family_datasheet.pdf; Description_: TOPSwitch-JX Family, 57W Output Power, eSIP-7C
pins: 1 V, 2 X, 3 C, 4 F, 5 S, 7 D

## TOP265KG
designator *  value TOP265KG  Reference: U
TOPSwitch-JX Family, 34W Output Power, eSOP-12B; ki_keywords: Integrated Off-Line Switcher with EcoSmart™ Technology; ki_fp_filters: PowerIntegrations?eSOP?12B*; Footprint: Package_SO:PowerIntegrations_eSOP-12B; Datasheet: https://ac-dc.power.com/sites/default/files/product-docs/topswitch-jx_family_datasheet.pdf; Description_: TOPSwitch-JX Family, 34W Output Power, eSOP-12B
pins: 1 V, 2 X, 3 C, 4 F, 6 D, 7 S, 8 S, 9 S, 10 S, 11 S, 12 S

## TOP265VG
designator *  value TOP265VG  Reference: U
TOPSwitch-JX Family, 57W Output Power, eDIP-12B; ki_keywords: Integrated Off-Line Switcher with EcoSmart™ Technology; ki_fp_filters: PowerIntegrations?eDIP?12*; Footprint: Package_DIP:PowerIntegrations_eDIP-12B; Datasheet: https://ac-dc.power.com/sites/default/files/product-docs/topswitch-jx_family_datasheet.pdf; Description_: TOPSwitch-JX Family, 57W Output Power, eDIP-12B
pins: 1 V, 2 X, 3 C, 4 F, 6 D, 7 S, 8 S, 9 S, 10 S, 11 S, 12 S

## TOP266EG
designator *  value TOP266EG  Reference: U
TOPSwitch-JX Family, 86W Output Power, eSIP-7C; ki_keywords: Integrated Off-Line Switcher with EcoSmart™ Technology; ki_fp_filters: PowerIntegrations?eSIP?7C*; Footprint: Package_SIP:PowerIntegrations_eSIP-7C; Datasheet: https://ac-dc.power.com/sites/default/files/product-docs/topswitch-jx_family_datasheet.pdf; Description_: TOPSwitch-JX Family, 86W Output Power, eSIP-7C
pins: 1 V, 2 X, 3 C, 4 F, 5 S, 7 D

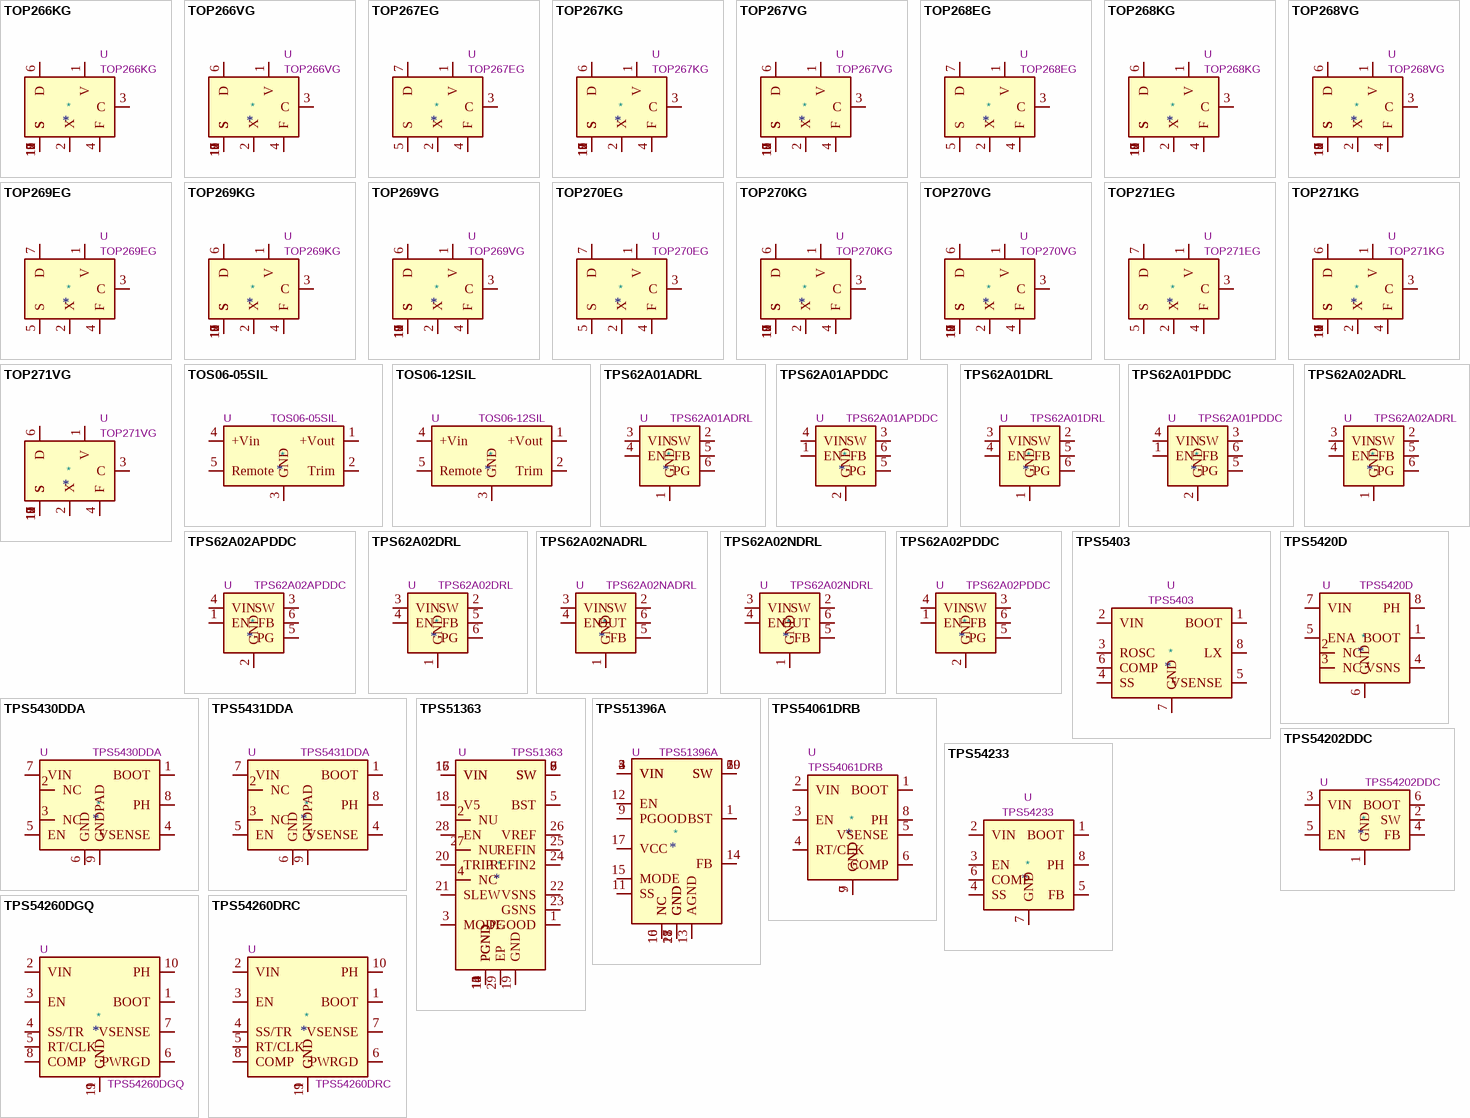
[diagram p26: symbols TOP266KG to TPS54260DRC]

## TOP266KG
designator *  value TOP266KG  Reference: U
TOPSwitch-JX Family, 39W Output Power, eSOP-12B; ki_keywords: Integrated Off-Line Switcher with EcoSmart™ Technology; ki_fp_filters: PowerIntegrations?eSOP?12B*; Footprint: Package_SO:PowerIntegrations_eSOP-12B; Datasheet: https://ac-dc.power.com/sites/default/files/product-docs/topswitch-jx_family_datasheet.pdf; Description_: TOPSwitch-JX Family, 39W Output Power, eSOP-12B
pins: 1 V, 2 X, 3 C, 4 F, 6 D, 7 S, 8 S, 9 S, 10 S, 11 S, 12 S

## TOP266VG
designator *  value TOP266VG  Reference: U
TOPSwitch-JX Family, 86W Output Power, eDIP-12B; ki_keywords: Integrated Off-Line Switcher with EcoSmart™ Technology; ki_fp_filters: PowerIntegrations?eDIP?12*; Footprint: Package_DIP:PowerIntegrations_eDIP-12B; Datasheet: https://ac-dc.power.com/sites/default/files/product-docs/topswitch-jx_family_datasheet.pdf; Description_: TOPSwitch-JX Family, 86W Output Power, eDIP-12B
pins: 1 V, 2 X, 3 C, 4 F, 6 D, 7 S, 8 S, 9 S, 10 S, 11 S, 12 S

## TOP267EG
designator *  value TOP267EG  Reference: U
TOPSwitch-JX Family, 103W Output Power, eSIP-7C; ki_keywords: Integrated Off-Line Switcher with EcoSmart™ Technology; ki_fp_filters: PowerIntegrations?eSIP?7C*; Footprint: Package_SIP:PowerIntegrations_eSIP-7C; Datasheet: https://ac-dc.power.com/sites/default/files/product-docs/topswitch-jx_family_datasheet.pdf; Description_: TOPSwitch-JX Family, 103W Output Power, eSIP-7C
pins: 1 V, 2 X, 3 C, 4 F, 5 S, 7 D

## TOP267KG
designator *  value TOP267KG  Reference: U
TOPSwitch-JX Family, 45W Output Power, eSOP-12B; ki_keywords: Integrated Off-Line Switcher with EcoSmart™ Technology; ki_fp_filters: PowerIntegrations?eSOP?12B*; Footprint: Package_SO:PowerIntegrations_eSOP-12B; Datasheet: https://ac-dc.power.com/sites/default/files/product-docs/topswitch-jx_family_datasheet.pdf; Description_: TOPSwitch-JX Family, 45W Output Power, eSOP-12B
pins: 1 V, 2 X, 3 C, 4 F, 6 D, 7 S, 8 S, 9 S, 10 S, 11 S, 12 S

## TOP267VG
designator *  value TOP267VG  Reference: U
TOPSwitch-JX Family, 103W Output Power, eDIP-12B; ki_keywords: Integrated Off-Line Switcher with EcoSmart™ Technology; ki_fp_filters: PowerIntegrations?eDIP?12*; Footprint: Package_DIP:PowerIntegrations_eDIP-12B; Datasheet: https://ac-dc.power.com/sites/default/files/product-docs/topswitch-jx_family_datasheet.pdf; Description_: TOPSwitch-JX Family, 103W Output Power, eDIP-12B
pins: 1 V, 2 X, 3 C, 4 F, 6 D, 7 S, 8 S, 9 S, 10 S, 11 S, 12 S

## TOP268EG
designator *  value TOP268EG  Reference: U
TOPSwitch-JX Family, 112W Output Power, eSIP-7C; ki_keywords: Integrated Off-Line Switcher with EcoSmart™ Technology; ki_fp_filters: PowerIntegrations?eSIP?7C*; Footprint: Package_SIP:PowerIntegrations_eSIP-7C; Datasheet: https://ac-dc.power.com/sites/default/files/product-docs/topswitch-jx_family_datasheet.pdf; Description_: TOPSwitch-JX Family, 112W Output Power, eSIP-7C
pins: 1 V, 2 X, 3 C, 4 F, 5 S, 7 D

## TOP268KG
designator *  value TOP268KG  Reference: U
TOPSwitch-JX Family, 50W Output Power, eSOP-12B; ki_keywords: Integrated Off-Line Switcher with EcoSmart™ Technology; ki_fp_filters: PowerIntegrations?eSOP?12B*; Footprint: Package_SO:PowerIntegrations_eSOP-12B; Datasheet: https://ac-dc.power.com/sites/default/files/product-docs/topswitch-jx_family_datasheet.pdf; Description_: TOPSwitch-JX Family, 50W Output Power, eSOP-12B
pins: 1 V, 2 X, 3 C, 4 F, 6 D, 7 S, 8 S, 9 S, 10 S, 11 S, 12 S

## TOP268VG
designator *  value TOP268VG  Reference: U
TOPSwitch-JX Family, 112W Output Power, eDIP-12B; ki_keywords: Integrated Off-Line Switcher with EcoSmart™ Technology; ki_fp_filters: PowerIntegrations?eDIP?12*; Footprint: Package_DIP:PowerIntegrations_eDIP-12B; Datasheet: https://ac-dc.power.com/sites/default/files/product-docs/topswitch-jx_family_datasheet.pdf; Description_: TOPSwitch-JX Family, 112W Output Power, eDIP-12B
pins: 1 V, 2 X, 3 C, 4 F, 6 D, 7 S, 8 S, 9 S, 10 S, 11 S, 12 S

## TOP269EG
designator *  value TOP269EG  Reference: U
TOPSwitch-JX Family, 120W Output Power, eSIP-7C; ki_keywords: Integrated Off-Line Switcher with EcoSmart™ Technology; ki_fp_filters: PowerIntegrations?eSIP?7C*; Footprint: Package_SIP:PowerIntegrations_eSIP-7C; Datasheet: https://ac-dc.power.com/sites/default/files/product-docs/topswitch-jx_family_datasheet.pdf; Description_: TOPSwitch-JX Family, 120W Output Power, eSIP-7C
pins: 1 V, 2 X, 3 C, 4 F, 5 S, 7 D

## TOP269KG
designator *  value TOP269KG  Reference: U
TOPSwitch-JX Family, 55W Output Power, eSOP-12B; ki_keywords: Integrated Off-Line Switcher with EcoSmart™ Technology; ki_fp_filters: PowerIntegrations?eSOP?12B*; Footprint: Package_SO:PowerIntegrations_eSOP-12B; Datasheet: https://ac-dc.power.com/sites/default/files/product-docs/topswitch-jx_family_datasheet.pdf; Description_: TOPSwitch-JX Family, 55W Output Power, eSOP-12B
pins: 1 V, 2 X, 3 C, 4 F, 6 D, 7 S, 8 S, 9 S, 10 S, 11 S, 12 S

## TOP269VG
designator *  value TOP269VG  Reference: U
TOPSwitch-JX Family, 120W Output Power, eDIP-12B; ki_keywords: Integrated Off-Line Switcher with EcoSmart™ Technology; ki_fp_filters: PowerIntegrations?eDIP?12*; Footprint: Package_DIP:PowerIntegrations_eDIP-12B; Datasheet: https://ac-dc.power.com/sites/default/files/product-docs/topswitch-jx_family_datasheet.pdf; Description_: TOPSwitch-JX Family, 120W Output Power, eDIP-12B
pins: 1 V, 2 X, 3 C, 4 F, 6 D, 7 S, 8 S, 9 S, 10 S, 11 S, 12 S

## TOP270EG
designator *  value TOP270EG  Reference: U
TOPSwitch-JX Family, 140W Output Power, eSIP-7C; ki_keywords: Integrated Off-Line Switcher with EcoSmart™ Technology; ki_fp_filters: PowerIntegrations?eSIP?7C*; Footprint: Package_SIP:PowerIntegrations_eSIP-7C; Datasheet: https://ac-dc.power.com/sites/default/files/product-docs/topswitch-jx_family_datasheet.pdf; Description_: TOPSwitch-JX Family, 140W Output Power, eSIP-7C
pins: 1 V, 2 X, 3 C, 4 F, 5 S, 7 D

## TOP270KG
designator *  value TOP270KG  Reference: U
TOPSwitch-JX Family, 60W Output Power, eSOP-12B; ki_keywords: Integrated Off-Line Switcher with EcoSmart™ Technology; ki_fp_filters: PowerIntegrations?eSOP?12B*; Footprint: Package_SO:PowerIntegrations_eSOP-12B; Datasheet: https://ac-dc.power.com/sites/default/files/product-docs/topswitch-jx_family_datasheet.pdf; Description_: TOPSwitch-JX Family, 60W Output Power, eSOP-12B
pins: 1 V, 2 X, 3 C, 4 F, 6 D, 7 S, 8 S, 9 S, 10 S, 11 S, 12 S

## TOP270VG
designator *  value TOP270VG  Reference: U
TOPSwitch-JX Family, 140W Output Power, eDIP-12B; ki_keywords: Integrated Off-Line Switcher with EcoSmart™ Technology; ki_fp_filters: PowerIntegrations?eDIP?12*; Footprint: Package_DIP:PowerIntegrations_eDIP-12B; Datasheet: https://ac-dc.power.com/sites/default/files/product-docs/topswitch-jx_family_datasheet.pdf; Description_: TOPSwitch-JX Family, 140W Output Power, eDIP-12B
pins: 1 V, 2 X, 3 C, 4 F, 6 D, 7 S, 8 S, 9 S, 10 S, 11 S, 12 S

## TOP271EG
designator *  value TOP271EG  Reference: U
TOPSwitch-JX Family, 177W Output Power, eSIP-7C; ki_keywords: Integrated Off-Line Switcher with EcoSmart™ Technology; ki_fp_filters: PowerIntegrations?eSIP?7C*; Footprint: Package_SIP:PowerIntegrations_eSIP-7C; Datasheet: https://ac-dc.power.com/sites/default/files/product-docs/topswitch-jx_family_datasheet.pdf; Description_: TOPSwitch-JX Family, 177W Output Power, eSIP-7C
pins: 1 V, 2 X, 3 C, 4 F, 5 S, 7 D

## TOP271KG
designator *  value TOP271KG  Reference: U
TOPSwitch-JX Family, 66W Output Power, eSOP-12B; ki_keywords: Integrated Off-Line Switcher with EcoSmart™ Technology; ki_fp_filters: PowerIntegrations?eSOP?12B*; Footprint: Package_SO:PowerIntegrations_eSOP-12B; Datasheet: https://ac-dc.power.com/sites/default/files/product-docs/topswitch-jx_family_datasheet.pdf; Description_: TOPSwitch-JX Family, 66W Output Power, eSOP-12B
pins: 1 V, 2 X, 3 C, 4 F, 6 D, 7 S, 8 S, 9 S, 10 S, 11 S, 12 S

## TOP271VG
designator *  value TOP271VG  Reference: U
TOPSwitch-JX Family, 177W Output Power, eDIP-12B; ki_keywords: Integrated Off-Line Switcher with EcoSmart™ Technology; ki_fp_filters: PowerIntegrations?eDIP?12*; Footprint: Package_DIP:PowerIntegrations_eDIP-12B; Datasheet: https://ac-dc.power.com/sites/default/files/product-docs/topswitch-jx_family_datasheet.pdf; Description_: TOPSwitch-JX Family, 177W Output Power, eDIP-12B
pins: 1 V, 2 X, 3 C, 4 F, 6 D, 7 S, 8 S, 9 S, 10 S, 11 S, 12 S

## TOS06-05SIL
designator *  value TOS06-05SIL  Reference: U
6A step-down regulator, 0.75-3.3VDC output voltage, 2.4-5.5VDC input voltage, SIP-9; ki_keywords: Traco non-isolated pol dcdc converter single; ki_fp_filters: Converter*DCDC*TRACO*TOS06*05SIL*THT*; Footprint: Converter_DCDC:Converter_DCDC_TRACO_TOS06-05SIL_THT; Datasheet: https://www.tracopower.com/products/tos06sil.pdf; Description_: 6A step-down regulator, 0.75-3.3VDC output voltage, 2.4-5.5VDC input voltage, SIP-9
pins: 1 +Vout, 2 Trim, 3 GND, 4 +Vin, 5 Remote

## TOS06-12SIL
designator *  value TOS06-12SIL  Reference: U
6A step-down regulator, 0.75-5.0VDC output voltage, 8.3-14.0VDC input voltage, SIP-9; ki_keywords: Traco non-isolated pol dcdc converter single; ki_fp_filters: Converter*DCDC*TRACO*TOS06*12SIL*THT*; Footprint: Converter_DCDC:Converter_DCDC_TRACO_TOS06-12SIL_THT; Datasheet: https://www.tracopower.com/products/tos06sil.pdf; Description_: 6A step-down regulator, 0.75-5.0VDC output voltage, 8.3-14.0VDC input voltage, SIP-9
pins: 1 +Vout, 2 Trim, 3 GND, 4 +Vin, 5 Remote

## TPS62A01ADRL
designator *  value TPS62A01ADRL  Reference: U
High Efficiency Synchronous Buck Converter with forced PWM, Adjustable Output 0.6V-5.5V, 1A, Power Good, Enable, SOT-563; ki_keywords: Step-Down DC-DC Regulator; ki_fp_filters: SOT?563*; Footprint: Package_TO_SOT_SMD:SOT-563; Datasheet: https://www.ti.com/lit/gpn/tps62a01a; Description_: High Efficiency Synchronous Buck Converter with forced PWM, Adjustable Output 0.6V-5.5V, 1A, Power Good, Enable, SOT-563
pins: 1 GND, 2 SW, 3 VIN, 4 EN, 5 FB, 6 PG

## TPS62A01APDDC
designator *  value TPS62A01APDDC  Reference: U
High Efficiency Synchronous Buck Converter with forced PWM, Adjustable Output 0.6V-5.5V, 1A, Power Good, Enable, SOT-23-6; ki_keywords: Step-Down DC-DC Regulator; ki_fp_filters: SOT?23?6*; Footprint: Package_TO_SOT_SMD:SOT-23-6; Datasheet: https://www.ti.com/lit/gpn/tps62a01a; Description_: High Efficiency Synchronous Buck Converter with forced PWM, Adjustable Output 0.6V-5.5V, 1A, Power Good, Enable, SOT-23-6
pins: 1 EN, 2 GND, 3 SW, 4 VIN, 5 PG, 6 FB